# EAGLE library part RTC (library HankLibrariesV2)
Real Time Clock PCB Using DS3231SN. Developed by JVivas
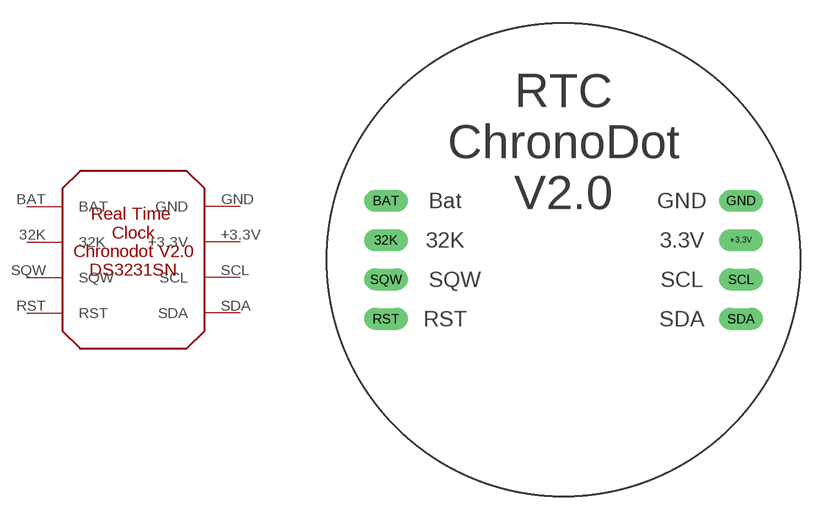
[diagram p0: symbol with the pads of RTC_FOOTPRINT; footprint RTC_FOOTPRINT]

Designator prefix -

## RTC  [RTC_FOOTPRINT]
32K  32K
+3.3V  +3.3V
BAT  BAT
GND  GND
RST  RST
SCL  SCL
SDA  SDA
SQW  SQW

## Footprint RTC_FOOTPRINT (pad centres in mm)
drill 0.9 long: 32K -11.43,0; +3.3V 11.43,0; BAT -11.43,2.54; GND 11.43,2.54; RST -11.43,-5.08; SCL 11.43,-2.54; SDA 11.43,-5.08; SQW -11.43,-2.54